# EAGLE library part 151230-8422-TB (library 3M_By_element14_Batch_1)
Header
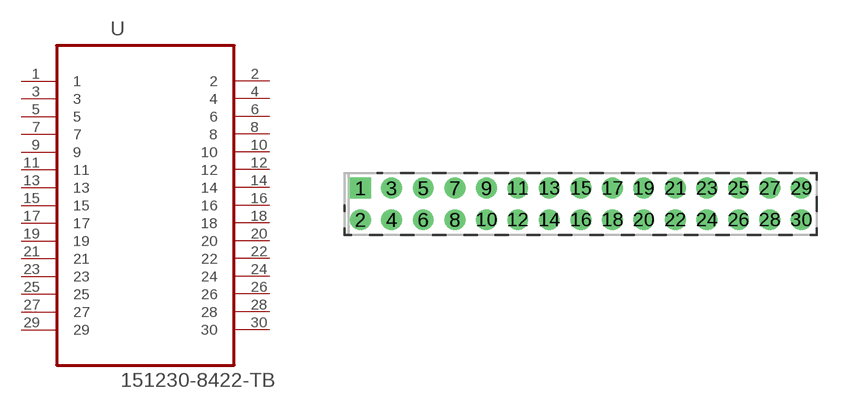
[diagram p16: symbol with the pads of 3M_151230-8422-TB; footprint 3M_151230-8422-TB]

Designator prefix U

## 151230-8422-TB (MPN: 151230-8422-TB; OC_FARNELL: -; OC_NEWARK: 50H5860; PACKAGE: Header-30Pin; SUPPLIER: 3M)  [3M_151230-8422-TB]
1  1  pas
2  2  pas
3  3  pas
4  4  pas
5  5  pas
6  6  pas
7  7  pas
8  8  pas
9  9  pas
10  10  pas
11  11  pas
12  12  pas
13  13  pas
14  14  pas
15  15  pas
16  16  pas
17  17  pas
18  18  pas
19  19  pas
20  20  pas
21  21  pas
22  22  pas
23  23  pas
24  24  pas
25  25  pas
26  26  pas
27  27  pas
28  28  pas
29  29  pas
30  30  pas

## Footprint 3M_151230-8422-TB (pad centres in mm)
drill 0.813 square: 1 -27.991,2.007
drill 0.813: 2 -27.991,0; 3 -26.01,2.007; 4 -26.01,0; 5 -24.003,2.007; 6 -24.003,0; 7 -21.996,2.007; 8 -21.996,0; 9 -19.99,2.007; 10 -19.99,0; 11 -18.009,2.007; 12 -18.009,0; 13 -16.002,2.007; 14 -16.002,0; 15 -13.995,2.007; 16 -13.995,0; 17 -11.989,2.007; 18 -11.989,0; 19 -10.008,2.007; 20 -10.008,0; 21 -8.001,2.007; 22 -8.001,0; 23 -5.994,2.007; 24 -5.994,0; 25 -3.988,2.007; 26 -3.988,0; 27 -2.007,2.007; 28 -2.007,0; 29 0,2.007; 30 0,0